# EAGLE library part TJA1042 (library canusb)
TJA1042 - High-speed CAN transceiver with Standby mode General description he TJA1042 is a high-speed CAN transceiver that provides an interface between aController Area Network (CAN) protocol controller and the physical two-wire CAN bus.The transceiver is designed for high-speed (up to 1 Mbit/s) CAN applications in theautomotive industry, providing the differential transmit and receive capability to (amicrocontroller with) a CAN protocol controller. The TJA1042 is a step up from the TJA1040, PCA82C250 and PCA82C251 high-speedCAN transceivers. It offers improved ElectroMagnetic Compatibility (EMC) andElectroStatic Discharge (ESD) performance, and also features: Ideal passive behavior to the CAN bus when the supply voltage is off A very low-current Standby mode with bus wake-up capability Direct interfacing to microcontrollers with 3 V to 5 V supply voltages on TJA1042T/3 and TJA1042TK/3These features make the TJA1042 an excellent choice for all types of HS-CAN networks, in nodes that require a low-power mode with wake-up capability via the CAN bus Features General Fully ISO 11898-2 and ISO 11898-5 compliant Suitable for 12 V and 24 V systems Low ElectroMagnetic Emission (EME) and high ElectroMagnetic Immunity (EMI) VIO input on TJA1042T/3 and TJA1042TK/3 allows for direct interfacing with 3 V to 5 V microcontrollers (available in SO8 and very small HVSON8 packages respectively) SPLIT voltage output on TJA1042T for stabilizing the recessive bus level (available inSO8 package only) Low-power management Very low-current Standby mode with host and bus wake-up capability Functional behavior predictable under all supply conditions Transceiver disengages from the bus when not powered up (zero load) Protections High ESD handling capability on the bus pins Bus pins protected against transients in automotive environments Transmit Data (TXD) dominant time-out function Bus-dominant time-out function in Standby mode Undervoltage detection on pins VCC and VIO Thermally protected
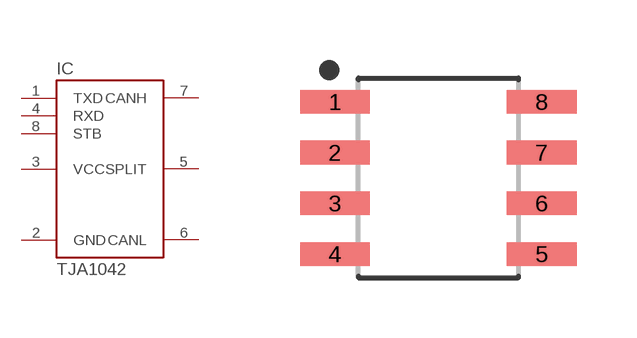
[diagram p6: symbol with the pads of SOIC127P600X265-8N; footprint SOIC127P600X265-8N]

Designator prefix IC

## TJA1042T  [SOIC127P600X265-8N]
1  TXD
2  GND  pwr
3  VCC  pwr
4  RXD
5  SPLIT
6  CANL
7  CANH
8  STB

## Footprint SOIC127P600X265-8N (pad centres in mm)
8-SOIC, 1.27 mm pitch, 6.00 mm span, 4.90 X 3.90 X 2.65 mm body 8-pin SOIC package with 1.27 mm pitch, 6.00 mm span with body size 4.90 X 3.90 X 2.65 mm
smd 1.746 x 0.592: 1 -2.585,1.905; 2 -2.585,0.635; 3 -2.585,-0.635; 4 -2.585,-1.905; 5 2.585,-1.905; 6 2.585,-0.635; 7 2.585,0.635; 8 2.585,1.905